# EAGLE library part TCA9406DCU (library Explore Labs EAGLE Library)
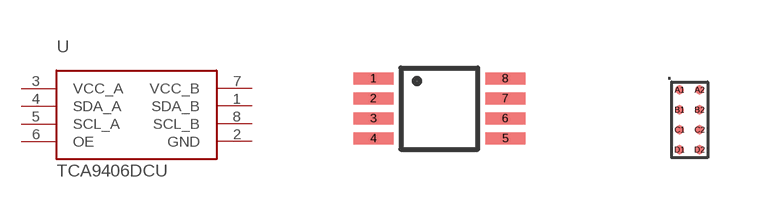
[diagram p6: symbol with the pads of VSSOP8; footprints VSSOP8, YZP-XBGA]

Designator prefix -

## TCA9406DCU-DCU  [VSSOP8]
1  SDA_B
2  GND
3  VCC_A
4  SDA_A
5  SCL_A
6  OE
7  VCC_B
8  SCL_B

## TCA9406DCU-YZP  [YZP-XBGA]
A1  SDA_B
A2  SCL_B
B1  GND
B2  VCC_B
C1  VCC_A
C2  OE
D1  SDA_A
D2  SCL_A

## Footprint VSSOP8 (pad centres in mm)
smd 1 x 0.3: 1 -1.65,0.75; 2 -1.65,0.25; 3 -1.65,-0.25; 4 -1.65,-0.75; 5 1.65,-0.75; 6 1.65,-0.25; 7 1.65,0.25; 8 1.65,0.75

## Footprint YZP-XBGA (pad centres in mm)
smd 0.23 x 0.23: A1 -0.25,0.75; A2 0.25,0.75; B1 -0.25,0.25; B2 0.25,0.25; C1 -0.25,-0.25; C2 0.25,-0.25; D1 -0.25,-0.75; D2 0.25,-0.75